# Altium footprint library ResistorLibrary.PcbLib: 25 footprints (part 1 of 2)
Each footprint in its own frame and in the unit in brackets; x right, y up, seen from the top. Pads: shape width x height; smd on the part's side, far side on the other; paste and mask are expansions set on the pad; w line width, h text height; cw(c..) or ccw(c..) is an arc to the next point about the centre after c.
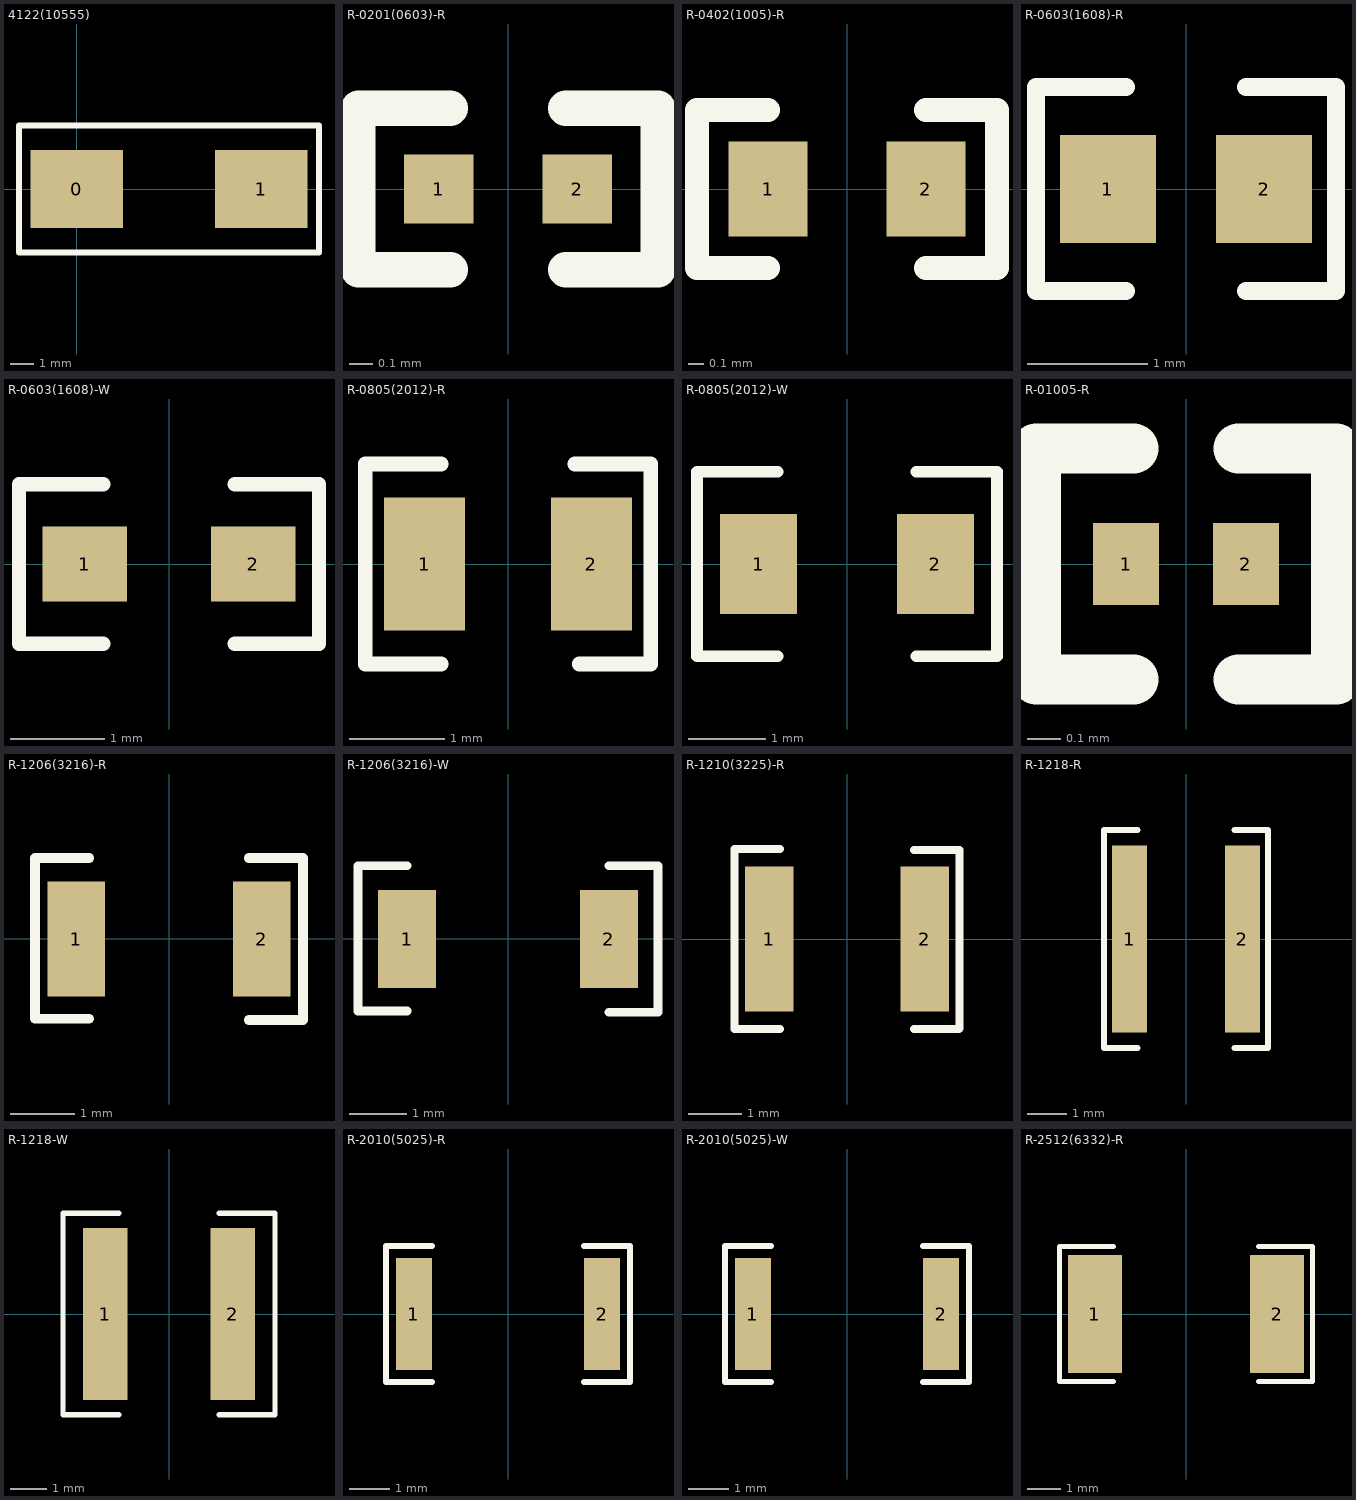
[diagram p0: the footprints below, top view; thin cyan lines are the x and y axes]

## 4122(10555) [mm]
pads (2):
  rect 4x3.4 smd: 0(0,0) 1(8,0)
Top Overlay:
  lines w0.254: -2.5,-2.75 10.5,-2.75 10.5,2.75 -2.5,2.75 -2.5,-2.75

## R-0201(0603)-R [mm] "Resistor 0201(0603) - Reflow"
pads (2):
  rect 0.3x0.3 smd paste+0 mask+0.075: 1(-0.3,0) 2(0.3,0)
Top Overlay:
  lines w0.152: -0.25,-0.35 -0.65,-0.35 -0.65,0.35 -0.25,0.35 ; 0.25,-0.35 0.65,-0.35 0.65,0.35 0.25,0.35
3D body "RES0201.stp": height 0.3, standoff 0, extent -0.3,-0.15 0.3,0.15

## R-0402(1005)-R [mm] "Resistor 0402(1005)-Reflow"
pads (2):
  rect 0.5x0.6 smd: 1(-0.5,0) 2(0.5,0)
Top Overlay:
  lines w0.152: -0.5,-0.5 -0.95,-0.5 -0.95,0.5 -0.5,0.5 ; 0.5,-0.5 0.95,-0.5 0.95,0.5 0.5,0.5
3D body "RES0402.stp": height 0.3, standoff 0, extent -0.5,-0.25 0.5,0.25

## R-0603(1608)-R [mm] "Resistor 0603(1608) Reflow"
pads (2):
  rect 0.8x0.9 smd: 1(-0.65,0) 2(0.65,0)
Top Overlay:
  lines w0.152: -0.5,-0.85 -1.25,-0.85 -1.25,0.85 -0.5,0.85 ; 0.5,-0.85 1.25,-0.85 1.25,0.85 0.5,0.85
3D body "res0603.stp": height 0.45, standoff 0, extent -0.8,-0.4 0.8,0.4

## R-0603(1608)-W [mm] "Resistor 0603(1608) Wave"
pads (2):
  rect 0.9x0.8 smd: 1(-0.9,0) 2(0.9,0)
Top Overlay:
  lines w0.152: -0.7,-0.85 -1.6,-0.85 -1.6,0.85 -0.7,0.85 ; 0.7,-0.85 1.6,-0.85 1.6,0.85 0.7,0.85
3D body "res0603.stp": height 0.45, standoff 0, extent -0.8,-0.4 0.8,0.4

## R-0805(2012)-R [mm] "Resistor 0805(2012) Reflow"
pads (2):
  rect 0.85x1.4 smd: 1(-0.875,0) 2(0.875,0)
Top Overlay:
  lines w0.152: -0.7,-1.05 -1.5,-1.05 -1.5,1.05 -0.7,1.05 ; 0.7,1.05 1.5,1.05 1.5,-1.05 0.75,-1.05
3D body "RES0805.stp": height 0.5, standoff 0, extent -1,-0.625 1,0.625

## R-0805(2012)-W [mm] "Resistor 0805(2012) Wave"
pads (2):
  rect 1x1.3 smd: 1(-1.15,0) 2(1.15,0)
Top Overlay:
  lines w0.152: -0.9,-1.2 -1.95,-1.2 -1.95,1.2 -0.9,1.2 ; 0.9,-1.2 1.95,-1.2 1.95,1.2 0.9,1.2
3D body "RES0805.stp": height 0.5, standoff 0, extent -1,-0.625 1,0.625

## R-01005-R [mm] "Resistor 01005 Reflow"
pads (2):
  rect 0.2x0.25 smd paste+0 mask+0.05: 1(-0.182,0) 2(0.182,0)
Top Overlay:
  lines w0.152: -0.16,-0.35 -0.455,-0.35 -0.455,0.35 -0.16,0.35 ; 0.16,-0.35 0.455,-0.35 0.455,0.35 0.16,0.35
3D body: height 0.13, standoff 0, extent 0.1,-0.1 0.2,0.1
3D body: height 0.13, standoff 0, extent -0.1,-0.1 0.1,0.1
3D body: height 0.13, standoff 0, extent -0.2,-0.1 -0.1,0.1

## R-1206(3216)-R [mm] "Resistor 1206(3216) Reflow"
pads (2):
  rect 0.9x1.8 smd: 1(-1.45,0) 2(1.45,0)
Top Overlay:
  lines w0.152: -1.25,-1.25 -2.1,-1.25 -2.1,1.27 -1.25,1.27 ; 1.25,-1.27 2.1,-1.27 2.1,1.27 1.25,1.27
3D body "RES1206.stp": height 0.55, standoff 0, extent -1.5,-0.775 1.6,0.777

## R-1206(3216)-W [mm] "Resistor 1206(3216) Wave"
pads (2):
  rect 1x1.7 smd: 1(-1.75,0) 2(1.75,0)
Top Overlay:
  lines w0.152: -1.75,-1.25 -2.6,-1.25 -2.6,1.27 -1.75,1.27 ; 1.75,-1.27 2.6,-1.27 2.6,1.27 1.75,1.27
3D body "RES1206.stp": height 0.55, standoff 0, extent -1.55,-0.775 1.55,0.777

## R-1210(3225)-R [mm] "Resistor 1210(3225) Reflow"
pads (2):
  rect 0.9x2.7 smd: 1(-1.45,0) 2(1.45,0)
Top Overlay:
  lines w0.152: -1.25,-1.68 -2.1,-1.68 -2.1,1.68 -1.25,1.68 ; 1.25,-1.68 2.09,-1.68 2.1,-1.67 2.1,1.66 1.25,1.66

## R-1218-R [mm] "Resistor 1218 Reflow"
pads (2):
  rect 0.9x4.8 smd: 1(-1.45,0) 2(1.45,0)
Top Overlay:
  lines w0.152: -1.25,-2.8 -2.1,-2.8 -2.1,2.8 -1.25,2.8 ; 1.25,-2.8 2.1,-2.8 2.1,2.8 1.25,2.8
3D body "RES1218.stp": height 0.55, standoff 0, extent -1.55,-2.3 1.55,2.306

## R-1218-W [mm] "Resistor 1218 Wave"
pads (2):
  rect 1.25x4.8 smd: 1(-1.775,0) 2(1.775,0)
Top Overlay:
  lines w0.152: -1.4,-2.8 -2.95,-2.8 -2.95,2.8 -1.4,2.8 ; 1.4,-2.8 2.95,-2.8 2.95,2.8 1.4,2.8
3D body "RES1218.stp": height 0.55, standoff 0, extent -1.55,-2.302 1.55,2.304

## R-2010(5025)-R [mm] "Resistor 2010(5025) Reflow"
pads (2):
  rect 0.9x2.8 smd: 1(-2.35,0) 2(2.35,0)
Top Overlay:
  lines w0.152: -1.9,-1.7 -3.05,-1.7 -3.05,1.7 -1.9,1.7 ; 1.9,-1.7 3.05,-1.7 3.05,1.7 1.9,1.7
3D body "RES2010.stp": height 0.55, standoff 0, extent -2.45,-1.2 2.45,1.2

## R-2010(5025)-W [mm] "Resistor 2010(5025) Wave"
pads (2):
  rect 0.9x2.8 smd: 1(-2.35,0) 2(2.35,0)
Top Overlay:
  lines w0.152: -1.9,-1.7 -3.05,-1.7 -3.05,1.7 -1.9,1.7 ; 1.9,-1.7 3.05,-1.7 3.05,1.7 1.9,1.7
3D body "RES2010.stp": height 0.55, standoff 0, extent -2.45,-1.2 2.45,1.2

## R-2512(6332)-R [mm] "Resistor 2512(6332) Reflow"
pads (2):
  rect 1.6x3.5 smd: 1(-2.7,0) 2(2.7,0)
Top Overlay:
  lines w0.152: -2.15,-2 -3.75,-2 -3.75,2 -2.15,2 ; 2.15,-2 3.75,-2 3.75,2 2.15,2
3D body "res2512.stp": height 0.55, standoff 0, extent -3.15,-1.55 3.15,1.55